# Altium schematic symbol library Power_supply.SchLib: 9 symbols
Pins are listed as number, name and electrical type; pins without a type are passive.

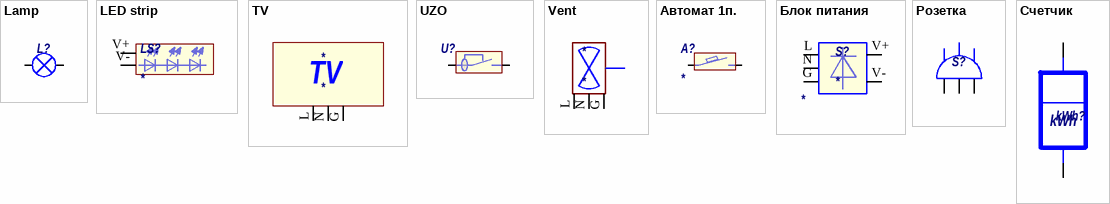
[diagram p0: symbols Lamp to Счетчик]

## Lamp
designator L?  (value not drawn)
Voltage: *; Power: *
pins: 1, 2

## LED strip
designator LS?
Voltage: *; Power: *
pins: V+, V-

## TV
designator *
pins: G N, L N, N

## UZO
designator U?  (value not drawn)
pins: 1, 2

## Vent
designator *
pins: G N, L N, N

## Автомат 1п.
designator A?
Current: *
pins: 1, 2

## Блок питания
designator S?
Voltage: *; Power: *
pins: G 5, L 3, N 4, V+ N, V- N

## Розетка
designator S?  (value not drawn)
pins: 1, 2, 3

## Счетчик
designator kWh?  (value not drawn)
pins: 1, 2
text: kWh